# Altium integrated library Capacitores.IntLib: 16 symbols
Pins are listed as number, name and electrical type; pins without a type are passive.

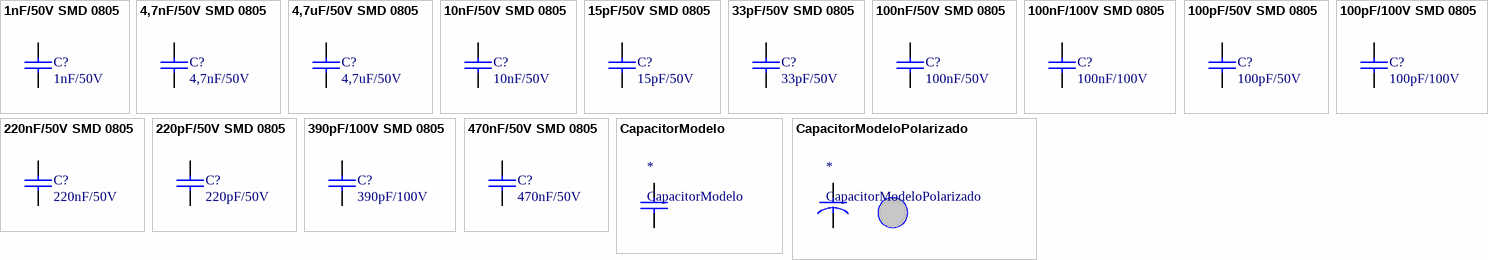
[diagram p0: symbols 1nF/50V SMD 0805 to CapacitorModeloPolarizado]

## 1nF/50V SMD 0805
designator C?, comment Valor/Partnumber: 1nF/50V  (hidden comment: CAP)
Capacitor SMD 0805; Tolerância: 10%; Fornecimento: Montadora; Cod. Protheus: *; Fornecedor1: *; Montagem: SMD
footprint 0805 (SMD 0805 inch - 2012 mm)
pins: 1, 2

## 4,7nF/50V SMD 0805
designator C?, comment Valor/Partnumber: 4,7nF/50V  (hidden comment: CAP)
Capacitor SMD 0805; Tolerância: 10%; Fornecimento: Montadora; Cod. Protheus: *; Fornecedor1: *; Montagem: SMD
footprint 0805 (SMD 0805 inch - 2012 mm)
pins: 1, 2

## 4,7uF/50V SMD 0805
designator C?, comment Valor/Partnumber: 4,7uF/50V  (hidden comment: CAP)
Capacitor SMD 0805; Tolerância: 10%; Fornecimento: Montadora; Cod. Protheus: *; Fornecedor1: *; Montagem: SMD
footprint 0805 (SMD 0805 inch - 2012 mm)
pins: 1, 2

## 10nF/50V SMD 0805
designator C?, comment Valor/Partnumber: 10nF/50V  (hidden comment: CAP)
Capacitor SMD 0805; Tolerância: 10%; Fornecimento: Montadora; Cod. Protheus: *; Fornecedor1: *; Montagem: SMD
footprint 0805 (SMD 0805 inch - 2012 mm)
pins: 1, 2

## 15pF/50V SMD 0805
designator C?, comment Valor/Partnumber: 15pF/50V  (hidden comment: CAP)
Capacitor SMD 0805; Tolerância: 10%; Fornecimento: Montadora; Cod. Protheus: *; Fornecedor1: *; Montagem: SMD
footprint 0805 (SMD 0805 inch - 2012 mm)
pins: 1, 2

## 33pF/50V SMD 0805
designator C?, comment Valor/Partnumber: 33pF/50V  (hidden comment: CAP)
Capacitor SMD 0805; Tolerância: 10%; Fornecimento: Montadora; Cod. Protheus: *; Fornecedor1: *; Montagem: SMD
footprint 0805 (SMD 0805 inch - 2012 mm)
pins: 1, 2

## 100nF/50V SMD 0805
designator C?, comment Valor/Partnumber: 100nF/50V  (hidden comment: CAP)
Capacitor SMD 0805; Tolerância: 10%; Fornecimento: Montadora; Cod. Protheus: *; Fornecedor1: *; Montagem: SMD
footprint 0805 (SMD 0805 inch - 2012 mm)
pins: 1, 2

## 100nF/100V SMD 0805
designator C?, comment Valor/Partnumber: 100nF/100V  (hidden comment: CAP)
Capacitor SMD 0805; Tolerância: 10%; Fornecimento: Montadora; Cod. Protheus: *; Fornecedor1: *; Montagem: SMD
footprint 0805 (SMD 0805 inch - 2012 mm)
pins: 1, 2

## 100pF/50V SMD 0805
designator C?, comment Valor/Partnumber: 100pF/50V  (hidden comment: CAP)
Capacitor SMD 0805; Tolerância: 10%; Fornecimento: Montadora; Cod. Protheus: *; Fornecedor1: *; Montagem: SMD
footprint 0805 (SMD 0805 inch - 2012 mm)
pins: 1, 2

## 100pF/100V SMD 0805
designator C?, comment Valor/Partnumber: 100pF/100V  (hidden comment: CAP)
Capacitor SMD 0805; Tolerância: 10%; Fornecimento: Montadora; Cod. Protheus: *; Fornecedor1: *; Montagem: SMD
footprint 0805 (SMD 0805 inch - 2012 mm)
pins: 1, 2

## 220nF/50V SMD 0805
designator C?, comment Valor/Partnumber: 220nF/50V  (hidden comment: CAP)
Capacitor SMD 0805; Tolerância: 10%; Fornecimento: Montadora; Cod. Protheus: *; Fornecedor1: *; Montagem: SMD
footprint 0805 (SMD 0805 inch - 2012 mm)
pins: 1, 2

## 220pF/50V SMD 0805
designator C?, comment Valor/Partnumber: 220pF/50V  (hidden comment: CAP)
Capacitor SMD 0805; Tolerância: 10%; Fornecimento: Montadora; Cod. Protheus: *; Fornecedor1: *; Montagem: SMD
footprint 0805 (SMD 0805 inch - 2012 mm)
pins: 1, 2

## 390pF/100V SMD 0805
designator C?, comment Valor/Partnumber: 390pF/100V  (hidden comment: CAP)
Capacitor SMD 0805; Tolerância: 10%; Fornecimento: Montadora; Cod. Protheus: *; Fornecedor1: *; Montagem: SMD
footprint 0805 (SMD 0805 inch - 2012 mm)
pins: 1, 2

## 470nF/50V SMD 0805
designator C?, comment Valor/Partnumber: 470nF/50V  (hidden comment: CAP)
Capacitor SMD 0805; Tolerância: 10%; Fornecimento: Montadora; Cod. Protheus: *; Fornecedor1: *; Montagem: SMD
footprint 0805 (SMD 0805 inch - 2012 mm)
pins: 1, 2

## CapacitorModelo
designator *
footprint C-7.5X3.5
footprint ECQE
pins: 1, 2

## CapacitorModeloPolarizado
designator *
CapacitorModelo
footprint C+5MM
pins: 1, 2